# Altium schematic symbol library AkronMacon_CE.SchLib: 1 symbol
Pins are listed as number, name and electrical type; pins without a type are passive.

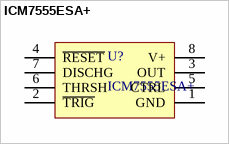
[diagram p0: symbol ICM7555ESA+]

## ICM7555ESA+
designator U?
IC OSC SGL TIMER 500KHZ 8-SOIC; Manufacturer: Maxim Integrated; Manufacturer Part Number: ICM7555ESA+; Supplier 1: Digi-Key; Supplier 1 Part Number: ICM7555ESA+CT-ND
footprint MAXIM_SOIC(N)_8 (Sourced from Maxim 90-0372revA https://pdfserv.maximintegrated.com/land_patterns/90-0372.PDF)
pins: 1 GND, 2 ~{TRIG}, 3 OUT, 4 ~{RESET}, 5 CTRL, 6 THRSH, 7 DISCHG, 8 V+